# EAGLE library part 691709710306 (library Wurth_Connectors_WR-TBL Rising Cage Clamp)
WR-TBL Series 7097 - Rising Cage Clamp 5.0mm pitch - Horizontal cable entry - SMT Kind Properties Pitch 5 mm General Information Operating Temperature -40 up to +130 °C Compliance RoHS Electrical Properties IR cULus 6 A Working Voltage [cULus] 300 V (AC) Withstanding Voltage [cULus] 1600 V (AC) Contact Resistance [cULus] 20 mΩ Mechanical Properties Wire Strip Length 7 up to 8 (mm) Screw M3 Material Properties Insulator Material PA46 Insulator Flammability Rating UL94 V-0 Pin Material Brass Pin Plating Tin over Nickel Cage Material Brass Cage Plating Nickel Terminal Screw Material Steel Terminal Screw Plating Zinc Screw M3 Certification cULus Approval E315414 Packaging Properties Packaging Tape and Reel with Cap Wire Properties Wire Strip Length 7 up to 8 (mm) Solid Wire Section (AWG) 30 to 14 (AWG) Solid Wire Section (Metric) 0.2 to 1.5 (mm²) Stranded Wire Section (AWG) 30 to 14 (AWG) Stranded Wire Section (Metric) 0.2 to 1.5 (mm²) <https://www.we-online.com/components/media/o58289v209%20Family_WR-TBL_Serie_7097_6917097103xx.jpg> Details see: www.we-online.com/components/products/TBL_5_00_SMT_7097_HORIZONTAL_ENTRY_SMT_RISING_CAGE_CLAMP_69170971030X <www.we-online.com/catalog/TBL_5_00_SMT_7097_HORIZONTAL_ENTRY_SMT_RISING_CAGE_CLAMP_69170971030X/?utm_source=eagle_model&utm_medium=description_link&utm_campaign=eisos_eagle> Updated by Ella Wu 2023-08-23 2023(C) Wurth Elektronik
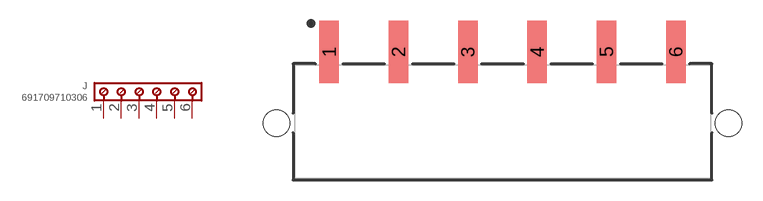
[diagram p75: symbol with the pads of 691709710306; footprint 691709710306]

Designator prefix J

## 691709710306 (DATASHEET-URL: https://www.we-online.com/redexpert/spec/691709710306?ae; IR-UL: 6A; MOUNT: THT; PART-NUMBER: 691709710306; PINS: 6; PITCH: 5mm; TYPE: Horizontal; WIRE: 34 to 14 (AWG) 0.2 to 1.5 (mm²); WORKING-VOLTAGE-UL: 300V (AC))  [691709710306]
1  1  pas
2  2  pas
3  3  pas
4  4  pas
5  5  pas
6  6  pas

## Footprint 691709710306 (pad centres in mm)
WR-TBL Series 7097 - Rising Cage Clamp 5.0mm pitch - Horizontal cable entry - SMT Max Height =10.9mm , Pitch 5mm , 6 Pins
smd 1.4 x 4.5: 1 -12.5,5.15; 2 -7.5,5.15; 3 -2.5,5.15; 4 2.5,5.15; 5 7.5,5.15; 6 12.5,5.15
hole 1.9 at -16.3,0
hole 1.9 at 16.3,0